# EAGLE library part S14B-PHDSS (library con-jst-phd)
JST PHD series header 2.00mm pitch disconnectable crimp style connectors, horizontal (side entry type), 14 pins
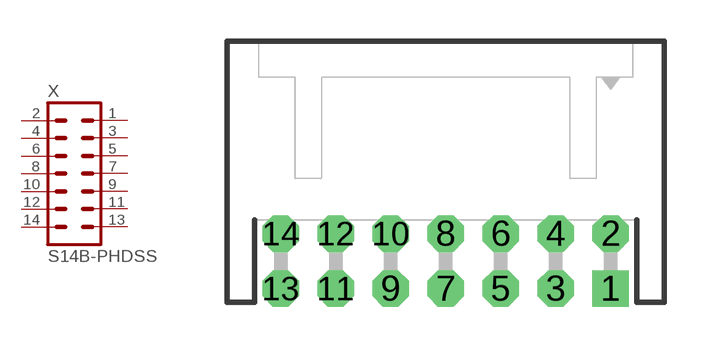
[diagram p17: symbol with the pads of S14B-PHDSS; footprint S14B-PHDSS]

Designator prefix X

## S14B-PHDSS  [S14B-PHDSS]
1  1  pas
2  2  pas
3  3  pas
4  4  pas
5  5  pas
6  6  pas
7  7  pas
8  8  pas
9  9  pas
10  10  pas
11  11  pas
12  12  pas
13  13  pas
14  14  pas

## S14B-PHDSS-B  [S14B-PHDSS]
Pads as for S14B-PHDSS

## Footprint S14B-PHDSS (pad centres in mm)
JST PHD series header 2.00mm pitch disconnectable crimp style connectors, through-hole horizontal (top entry type), 14 pins
drill 0.7 pad 1.321 square: 1 6,-1
drill 0.7 pad 1.321 octagon: 2 6,1; 3 4,-1; 4 4,1; 5 2,-1; 6 2,1; 7 0,-1; 8 0,1; 9 -2,-1; 10 -2,1; 11 -4,-1; 12 -4,1; 13 -6,-1; 14 -6,1